# Altium footprint library Diode_THT.PcbLib: 111 footprints (part 4 of 7)
Each footprint in its own frame and in the unit in brackets; x right, y up, seen from the top. Pads: shape width x height; smd on the part's side, far side on the other; paste and mask are expansions set on the pad; w line width, h text height; cw(c..) or ccw(c..) is an arc to the next point about the centre after c.
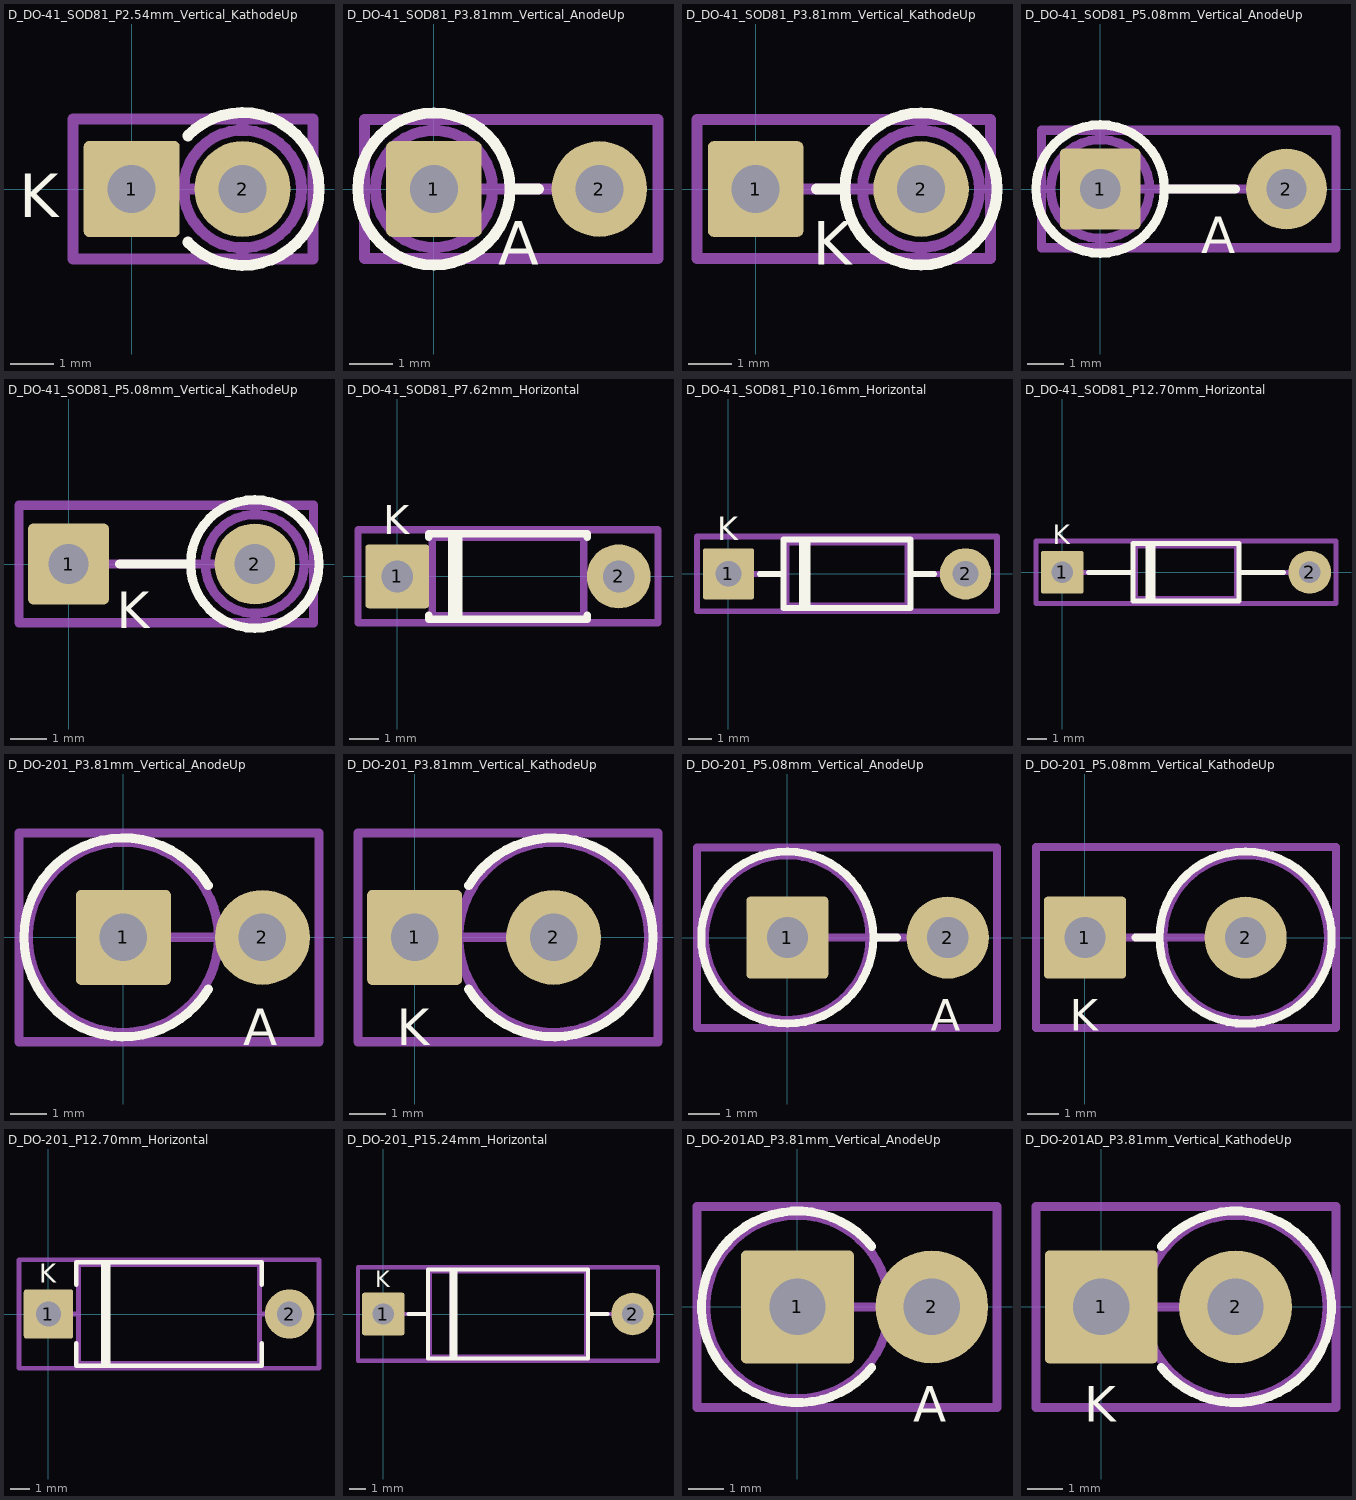
[diagram p3: the footprints below, top view; thin cyan lines are the x and y axes]

## D_DO-41_SOD81_P2.54mm_Vertical_KathodeUp [mm] "D_DO-41_SOD81_P2.54mm_Vertical_KathodeUp"
pads (2):
  rrect11% 2.2x2.2 hole 1.1: 1(0,0)
  round 2.2 hole 1.1: 2(2.54,0)
F.SilkS:
  lines w0.254: 1.284,-1.22 ccw(c2.54,0) 1.284,1.22
  text "K" at -2.583,-0.65 h1
Top Component Center:
  lines w0.127: -0.127,0 0.127,0 ; 0,-0.127 0,0.127
Top Assembly:
  circle w0.254: c2.54,0 r1.35
  lines w0.254: 0,0 2.54,0
  text "K" at -2.583,-0.65 h1
Top Courtyard:
  lines w0.254: -1.35,-1.6 -1.35,1.6 4.15,1.6 4.15,-1.6 -1.35,-1.6
Top Designator:
  text ".Designator" at -2.291,0.544 h1.52
3D body "D_DO-41_SOD81_P2.54mm_Vertical_KathodeUp.step": height 7.4, standoff -3, extent -0.4,-1.35 3.9,1.35

## D_DO-41_SOD81_P3.81mm_Vertical_AnodeUp [mm] "D_DO-41_SOD81_P3.81mm_Vertical_AnodeUp"
pads (2):
  rrect11% 2.2x2.2 hole 1.1: 1(0,0)
  round 2.2 hole 1.1: 2(3.81,0)
F.SilkS:
  circle w0.254: c0,0 r1.751
  lines w0.254: 1.751,0 2.41,0
  text "A" at 1.479,-1.75 h1
Top Component Center:
  lines w0.127: -0.127,0 0.127,0 ; 0,-0.127 0,0.127
Top Assembly:
  circle w0.254: c0,0 r1.35
  lines w0.254: 0,0 3.81,0
  text "A" at 1.479,-1.75 h1
Top Courtyard:
  lines w0.254: -1.6,-1.6 -1.6,1.6 5.16,1.6 5.16,-1.6 -1.6,-1.6
Top Designator:
  text ".Designator" at -1.529,0.544 h1.52

## D_DO-41_SOD81_P3.81mm_Vertical_KathodeUp [mm] "D_DO-41_SOD81_P3.81mm_Vertical_KathodeUp"
pads (2):
  rrect11% 2.2x2.2 hole 1.1: 1(0,0)
  round 2.2 hole 1.1: 2(3.81,0)
F.SilkS:
  circle w0.254: c3.81,0 r1.751
  lines w0.254: 1.4,0 2.059,0
  text "K" at 1.317,-1.75 h1
Top Component Center:
  lines w0.127: -0.127,0 0.127,0 ; 0,-0.127 0,0.127
Top Assembly:
  circle w0.254: c3.81,0 r1.35
  lines w0.254: 0,0 3.81,0
  text "K" at 1.317,-1.75 h1
Top Courtyard:
  lines w0.254: -1.35,-1.6 5.41,-1.6 5.41,1.6 -1.35,1.6 -1.35,-1.6
Top Designator:
  text ".Designator" at -1.679,0.258 h1.52

## D_DO-41_SOD81_P5.08mm_Vertical_AnodeUp [mm] "D_DO-41_SOD81_P5.08mm_Vertical_AnodeUp"
pads (2):
  rrect11% 2.2x2.2 hole 1.1: 1(0,0)
  round 2.2 hole 1.1: 2(5.08,0)
F.SilkS:
  circle w0.254: c0,0 r1.751
  lines w0.254: 1.751,0 3.68,0
  text "A" at 2.749,-1.75 h1
Top Component Center:
  lines w0.127: -0.127,0 0.127,0 ; 0,-0.127 0,0.127
Top Assembly:
  circle w0.254: c0,0 r1.35
  lines w0.254: 0,0 5.08,0
  text "A" at 2.749,-1.75 h1
Top Courtyard:
  lines w0.254: -1.6,-1.6 -1.6,1.6 6.43,1.6 6.43,-1.6 -1.6,-1.6
Top Designator:
  text ".Designator" at -0.767,0.544 h1.52
3D body "D_DO-41_SOD81_P5.08mm_Vertical_AnodeUp.step": height 7.4, standoff -3, extent -1.36,-1.35 5.48,1.35

## D_DO-41_SOD81_P5.08mm_Vertical_KathodeUp [mm] "D_DO-41_SOD81_P5.08mm_Vertical_KathodeUp"
pads (2):
  rrect11% 2.2x2.2 hole 1.1: 1(0,0)
  round 2.2 hole 1.1: 2(5.08,0)
F.SilkS:
  circle w0.254: c5.08,0 r1.751
  lines w0.254: 1.4,0 3.329,0
  text "K" at 1.317,-1.75 h1
Top Component Center:
  lines w0.127: -0.127,0 0.127,0 ; 0,-0.127 0,0.127
Top Assembly:
  circle w0.254: c5.08,0 r1.35
  lines w0.254: 0,0 5.08,0
  text "K" at 1.317,-1.75 h1
Top Courtyard:
  lines w0.254: -1.35,-1.6 6.68,-1.6 6.68,1.6 -1.35,1.6 -1.35,-1.6
Top Designator:
  text ".Designator" at -0.784,0.258 h1.52
3D body "D_DO-41_SOD81_P5.08mm_Vertical_KathodeUp.step": height 7.4, standoff -3, extent -0.4,-1.35 6.44,1.35

## D_DO-41_SOD81_P7.62mm_Horizontal [mm] "D_DO-41_SOD81_P7.62mm_Horizontal"
pads (2):
  rrect11% 2.2x2.2 hole 1.1: 1(0,0)
  round 2.2 hole 1.1: 2(7.62,0)
F.SilkS:
  lines w0.254: 1.09,-1.34 1.09,-1.47 6.53,-1.47 6.53,-1.34 ; 1.09,1.34 1.09,1.47 6.53,1.47 6.53,1.34 ; 1.87,-1.47 1.87,1.47 ; 1.99,-1.47 1.99,1.47 ; 2.11,-1.47 2.11,1.47
  text "K" at -0.483,1.45 h1
Top Component Center:
  lines w0.127: -0.127,0 0.127,0 ; 0,-0.127 0,0.127
Top Assembly:
  lines w0.254: 0,0 1.21,0 ; 1.89,-1.35 1.89,1.35 ; 1.99,-1.35 1.99,1.35 ; 2.09,-1.35 2.09,1.35 ; 6.41,0 7.62,0 ; 1.21,-1.35 1.21,1.35 6.41,1.35 6.41,-1.35 1.21,-1.35
  text "K" at -0.483,1.45 h1
Top Courtyard:
  lines w0.254: -1.35,-1.6 -1.35,1.6 8.97,1.6 8.97,-1.6 -1.35,-1.6
Top Designator:
  text ".Designator" at 0.503,-0.218 h1.52
3D body "D_DO-41_SOD81_P7.62mm_Horizontal.step": height 3.21, standoff -2.5, extent -0.4,-1.35 8.02,1.35

## D_DO-41_SOD81_P10.16mm_Horizontal [mm] "D_DO-41_SOD81_P10.16mm_Horizontal"
pads (2):
  rrect11% 2.2x2.2 hole 1.1: 1(0,0)
  round 2.2 hole 1.1: 2(10.16,0)
F.SilkS:
  lines w0.254: 1.34,0 2.36,0 ; 3.14,-1.47 3.14,1.47 ; 3.26,-1.47 3.26,1.47 ; 3.38,-1.47 3.38,1.47 ; 7.8,0 8.82,0 ; 2.36,-1.47 2.36,1.47 7.8,1.47 7.8,-1.47 2.36,-1.47
  text "K" at -0.483,1.45 h1
Top Component Center:
  lines w0.127: -0.127,0 0.127,0 ; 0,-0.127 0,0.127
Top Assembly:
  lines w0.254: 0,0 2.48,0 ; 3.16,-1.35 3.16,1.35 ; 3.26,-1.35 3.26,1.35 ; 3.36,-1.35 3.36,1.35 ; 7.68,0 10.16,0 ; 2.48,-1.35 2.48,1.35 7.68,1.35 7.68,-1.35 2.48,-1.35
  text "K" at -0.483,1.45 h1
Top Courtyard:
  lines w0.254: -1.35,-1.6 -1.35,1.6 11.51,1.6 11.51,-1.6 -1.35,-1.6
Top Designator:
  text ".Designator" at 2.027,-0.218 h1.52
3D body "D_DO-41_SOD81_P10.16mm_Horizontal.step": height 3.21, standoff -2.5, extent -0.4,-1.35 10.56,1.35

## D_DO-41_SOD81_P12.70mm_Horizontal [mm] "D_DO-41_SOD81_P12.70mm_Horizontal"
pads (2):
  rrect11% 2.2x2.2 hole 1.1: 1(0,0)
  round 2.2 hole 1.1: 2(12.7,0)
F.SilkS:
  lines w0.254: 1.34,0 3.63,0 ; 4.41,-1.47 4.41,1.47 ; 4.53,-1.47 4.53,1.47 ; 4.65,-1.47 4.65,1.47 ; 9.07,0 11.36,0 ; 3.63,-1.47 3.63,1.47 9.07,1.47 9.07,-1.47 3.63,-1.47
  text "K" at -0.483,1.45 h1
Top Component Center:
  lines w0.127: -0.127,0 0.127,0 ; 0,-0.127 0,0.127
Top Assembly:
  lines w0.254: 0,0 3.75,0 ; 4.43,-1.35 4.43,1.35 ; 4.53,-1.35 4.53,1.35 ; 4.63,-1.35 4.63,1.35 ; 8.95,0 12.7,0 ; 3.75,-1.35 3.75,1.35 8.95,1.35 8.95,-1.35 3.75,-1.35
  text "K" at -0.483,1.45 h1
Top Courtyard:
  lines w0.254: -1.35,-1.6 -1.35,1.6 14.05,1.6 14.05,-1.6 -1.35,-1.6
Top Designator:
  text ".Designator" at 3.043,-0.091 h1.52
3D body "D_DO-41_SOD81_P12.70mm_Horizontal.step": height 3.21, standoff -2.5, extent -0.4,-1.35 13.1,1.35

## D_DO-201_P3.81mm_Vertical_AnodeUp [mm] "D_DO-201_P3.81mm_Vertical_AnodeUp"
pads (2):
  rrect10% 2.6x2.6 hole 1.3: 1(0,0)
  round 2.6 hole 1.3: 2(3.81,0)
F.SilkS:
  lines w0.254: 2.326,-1.42 cw(c0,0) 2.326,1.42
  text "A" at 3.279,-2.95 h1
Top Component Center:
  lines w0.127: -0.127,0 0.127,0 ; 0,-0.127 0,0.127
Top Assembly:
  circle w0.254: c0,0 r2.605
  lines w0.254: 0,0 3.81,0
  text "A" at 3.279,-2.95 h1
Top Courtyard:
  lines w0.254: -2.86,-2.86 5.36,-2.86 5.36,2.86 -2.86,2.86 -2.86,-2.86
Top Designator:
  text ".Designator" at -2.037,1.433 h1.52

## D_DO-201_P3.81mm_Vertical_KathodeUp [mm] "D_DO-201_P3.81mm_Vertical_KathodeUp"
pads (2):
  rrect10% 2.6x2.6 hole 1.3: 1(0,0)
  round 2.6 hole 1.3: 2(3.81,0)
F.SilkS:
  lines w0.254: 1.484,-1.42 ccw(c3.81,0) 1.484,1.42
  text "K" at -0.483,-2.95 h1
Top Component Center:
  lines w0.127: -0.127,0 0.127,0 ; 0,-0.127 0,0.127
Top Assembly:
  circle w0.254: c3.81,0 r2.605
  lines w0.254: 0,0 3.81,0
  text "K" at -0.483,-2.95 h1
Top Courtyard:
  lines w0.254: -1.55,-2.86 6.67,-2.86 6.67,2.86 -1.55,2.86 -1.55,-2.86
Top Designator:
  text ".Designator" at -1.021,1.56 h1.52

## D_DO-201_P5.08mm_Vertical_AnodeUp [mm] "D_DO-201_P5.08mm_Vertical_AnodeUp"
pads (2):
  rrect10% 2.6x2.6 hole 1.3: 1(0,0)
  round 2.6 hole 1.3: 2(5.08,0)
F.SilkS:
  circle w0.254: c0,0 r2.725
  lines w0.254: 2.725,0 3.48,0
  text "A" at 4.549,-2.95 h1
Top Component Center:
  lines w0.127: -0.127,0 0.127,0 ; 0,-0.127 0,0.127
Top Assembly:
  circle w0.254: c0,0 r2.605
  lines w0.254: 0,0 5.08,0
  text "A" at 4.549,-2.95 h1
Top Courtyard:
  lines w0.254: -2.86,-2.86 6.64,-2.86 6.64,2.86 -2.86,2.86 -2.86,-2.86
Top Designator:
  text ".Designator" at -1.402,1.687 h1.52
3D body "D_DO-201_P5.08mm_Vertical_AnodeUp.step": height 12.03, standoff -3, extent -2.603,-2.612 5.58,2.612

## D_DO-201_P5.08mm_Vertical_KathodeUp [mm] "D_DO-201_P5.08mm_Vertical_KathodeUp"
pads (2):
  rrect10% 2.6x2.6 hole 1.3: 1(0,0)
  round 2.6 hole 1.3: 2(5.08,0)
F.SilkS:
  circle w0.254: c5.08,0 r2.725
  lines w0.254: 1.6,0 2.355,0
  text "K" at -0.483,-2.95 h1
Top Component Center:
  lines w0.127: -0.127,0 0.127,0 ; 0,-0.127 0,0.127
Top Assembly:
  circle w0.254: c5.08,0 r2.605
  lines w0.254: 0,0 5.08,0
  text "K" at -0.483,-2.95 h1
Top Courtyard:
  lines w0.254: -1.55,-2.86 7.94,-2.86 7.94,2.86 -1.55,2.86 -1.55,-2.86
Top Designator:
  text ".Designator" at -0.132,1.687 h1.52
3D body "D_DO-201_P5.08mm_Vertical_KathodeUp.step": height 12.03, standoff -3, extent -0.5,-2.612 7.695,2.612

## D_DO-201_P12.70mm_Horizontal [mm] "D_DO-201_P12.70mm_Horizontal"
pads (2):
  rrect10% 2.6x2.6 hole 1.3: 1(0,0)
  round 2.6 hole 1.3: 2(12.7,0)
F.SilkS:
  lines w0.254: 1.465,-1.54 1.465,-2.725 11.235,-2.725 11.235,-1.54 ; 1.465,1.54 1.465,2.725 11.235,2.725 11.235,1.54 ; 2.895,-2.725 2.895,2.725 ; 3.014,-2.725 3.014,2.725 ; 3.134,-2.725 3.134,2.725
  text "K" at -0.483,1.65 h1
Top Component Center:
  lines w0.127: -0.127,0 0.127,0 ; 0,-0.127 0,0.127
Top Assembly:
  lines w0.254: 0,0 1.585,0 ; 2.915,-2.605 2.915,2.605 ; 3.014,-2.605 3.014,2.605 ; 3.114,-2.605 3.114,2.605 ; 11.115,0 12.7,0 ; 1.585,-2.605 1.585,2.605 11.115,2.605 11.115,-2.605 1.585,-2.605
  text "K" at -0.483,1.65 h1
Top Courtyard:
  lines w0.254: -1.55,-2.86 -1.55,2.86 14.25,2.86 14.25,-2.86 -1.55,-2.86
Top Designator:
  text ".Designator" at 3.805,-0.345 h1.52
3D body "D_DO-201_P12.70mm_Horizontal.step": height 5.72, standoff -2.5, extent -0.5,-2.612 13.2,2.612

## D_DO-201_P15.24mm_Horizontal [mm] "D_DO-201_P15.24mm_Horizontal"
pads (2):
  rrect10% 2.6x2.6 hole 1.3: 1(0,0)
  round 2.6 hole 1.3: 2(15.24,0)
F.SilkS:
  lines w0.254: 1.54,0 2.735,0 ; 4.165,-2.725 4.165,2.725 ; 4.284,-2.725 4.284,2.725 ; 4.404,-2.725 4.404,2.725 ; 12.505,0 13.7,0 ; 2.735,-2.725 2.735,2.725 12.505,2.725 12.505,-2.725 2.735,-2.725
  text "K" at -0.483,1.65 h1
Top Component Center:
  lines w0.127: -0.127,0 0.127,0 ; 0,-0.127 0,0.127
Top Assembly:
  lines w0.254: 0,0 2.855,0 ; 4.185,-2.605 4.185,2.605 ; 4.284,-2.605 4.284,2.605 ; 4.384,-2.605 4.384,2.605 ; 12.385,0 15.24,0 ; 2.855,-2.605 2.855,2.605 12.385,2.605 12.385,-2.605 2.855,-2.605
  text "K" at -0.483,1.65 h1
Top Courtyard:
  lines w0.254: -1.55,-2.86 -1.55,2.86 16.79,2.86 16.79,-2.86 -1.55,-2.86
Top Designator:
  text ".Designator" at 4.821,-0.345 h1.52
3D body "D_DO-201_P15.24mm_Horizontal.step": height 5.72, standoff -2.5, extent -0.5,-2.612 15.74,2.612

## D_DO-201AD_P3.81mm_Vertical_AnodeUp [mm] "D_DO-201AD_P3.81mm_Vertical_AnodeUp"
pads (2):
  rrect8% 3.2x3.2 hole 1.6: 1(0,0)
  round 3.2 hole 1.6: 2(3.81,0)
F.SilkS:
  lines w0.254: 2.107,-1.72 cw(c0,0) 2.107,1.72
  text "A" at 3.279,-3.25 h1
Top Component Center:
  lines w0.127: -0.127,0 0.127,0 ; 0,-0.127 0,0.127
Top Assembly:
  circle w0.254: c0,0 r2.6
  lines w0.254: 0,0 3.81,0
  text "A" at 3.279,-3.25 h1
Top Courtyard:
  lines w0.254: -2.85,-2.85 5.66,-2.85 5.66,2.85 -2.85,2.85 -2.85,-2.85
Top Designator:
  text ".Designator" at -2.164,1.814 h1.52

## D_DO-201AD_P3.81mm_Vertical_KathodeUp [mm] "D_DO-201AD_P3.81mm_Vertical_KathodeUp"
pads (2):
  rrect8% 3.2x3.2 hole 1.6: 1(0,0)
  round 3.2 hole 1.6: 2(3.81,0)
F.SilkS:
  lines w0.254: 1.703,-1.72 ccw(c3.81,0) 1.703,1.72
  text "K" at -0.483,-3.25 h1
Top Component Center:
  lines w0.127: -0.127,0 0.127,0 ; 0,-0.127 0,0.127
Top Assembly:
  circle w0.254: c3.81,0 r2.6
  lines w0.254: 0,0 3.81,0
  text "K" at -0.483,-3.25 h1
Top Courtyard:
  lines w0.254: -1.85,-2.85 6.66,-2.85 6.66,2.85 -1.85,2.85 -1.85,-2.85
Top Designator:
  text ".Designator" at -1.402,1.687 h1.52